# EAGLE library part MAX8614 (library 1AA_Stofer)
MAXIM Dual Output DC-DC converter
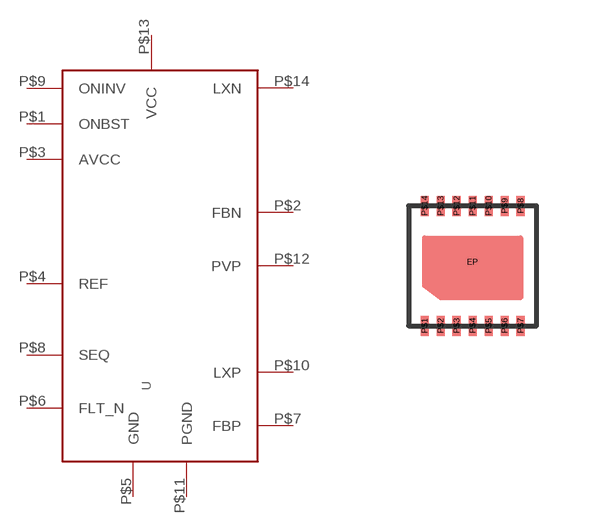
[diagram p20: symbol with the pads of DFN_14; footprint DFN_14]

Designator prefix -

## MAX8614  [DFN_14]
P$1  ONBST
P$2  FBN
P$3  AVCC
P$4  REF
P$5  GND
P$6  FLT_N
P$7  FBP
P$8  SEQ
P$9  ONINV
P$10  LXP
P$11  PGND
P$12  PVP
P$13  VCC
P$14  LXN

## Footprint DFN_14 (pad centres in mm)
smd 0.5 x 0.2: EP 1.6,1.6
smd 0.2 x 0.5: P$1 0.4,0; P$2 0.8,0; P$3 1.2,0; P$4 1.6,0; P$5 2,0; P$6 2.4,0; P$7 2.8,0; P$8 2.8,3; P$9 2.4,3; P$10 2,3; P$11 1.6,3; P$12 1.2,3; P$13 0.8,3; P$14 0.4,3